# Altium footprint library MSAST219LB5106KTNA01.PcbLib: 3 footprints
Each footprint in its own frame and in the unit in brackets; x right, y up, seen from the top. Pads: shape width x height; smd on the part's side, far side on the other; paste and mask are expansions set on the pad; w line width, h text height; cw(c..) or ccw(c..) is an arc to the next point about the centre after c.
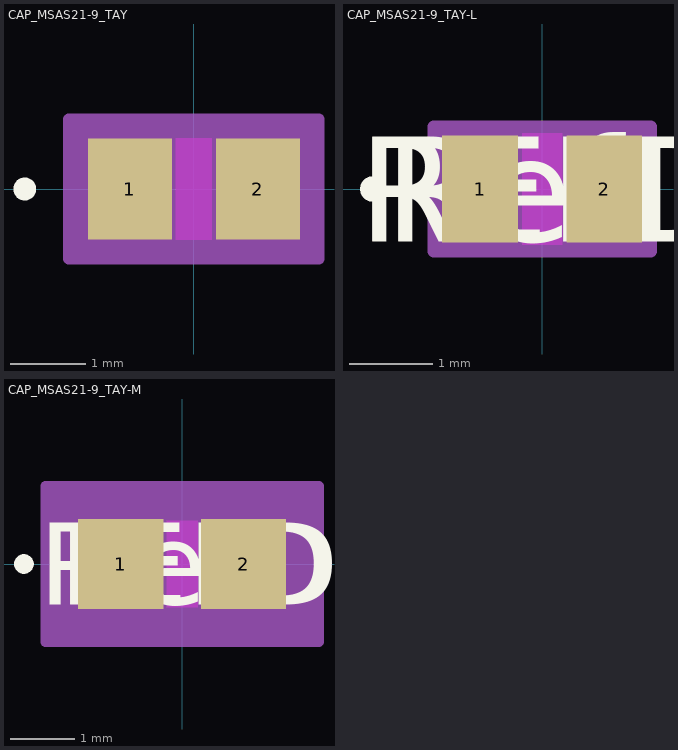
[diagram p0: the footprints below, top view; thin cyan lines are the x and y axes]

## CAP_MSAS21-9_TAY [mil]
pads (2):
  rect 44x53 smd paste+0 mask+0: 1(-33.5,0) 2(33.5,0)
Top Layer keep-out:
  region: -9.5,-24.5 -9.5,24.5 9.5,24.5 9.5,-24.5
Top Overlay:
  circle w6: c-88.5,0 r3
Keep-Out Layer:
  region: -9.5,-26.5 -9.5,26.5 9.5,26.5 9.5,-26.5
Mechanical 13:
  circle w0: c-28.5,0 r3
  lines w1: -41.5,-26.5 -41.5,26.5 ; -41.5,-26.5 41.5,-26.5 ; -41.5,-26.5 -11.5,-26.5 -11.5,26.5 -41.5,26.5 ; -41.5,-26.5 -41.5,26.5 ; -41.5,26.5 41.5,26.5 ; 41.5,-26.5 41.5,26.5 ; 41.5,-26.5 41.5,26.5 ; 41.5,-26.5 11.5,-26.5 11.5,26.5 41.5,26.5
Mechanical 15:
  region: 65.5,-36.5 -65.5,-36.5 -65.5,36.5 65.5,36.5
  lines w6: -65.5,-36.5 65.5,-36.5 65.5,36.5 -65.5,36.5 -65.5,-36.5
3D body "CAP_MSAS21-9_TAY.step": height 37.01, standoff 0, extent -41.5,-26.5 41.5,26.5

## CAP_MSAS21-9_TAY-L [mil]
pads (2):
  rect 36x51 smd paste+0 mask+0: 1(-29.5,0) 2(29.5,0)
Top Layer keep-out:
  region: -9.5,-24.5 -9.5,24.5 9.5,24.5 9.5,-24.5
Top Overlay:
  circle w6: c-80.5,0 r3
  text "RefDes" at -75,-25 h50
  text "REFDES" at -87.5,-25 h50
Keep-Out Layer:
  region: -9.5,-26.5 -9.5,26.5 9.5,26.5 9.5,-26.5
Mechanical 13:
  circle w0: c-24.5,0 r3
  lines w1: -41.5,-26.5 -41.5,26.5 ; -41.5,-26.5 -11.5,-26.5 -11.5,26.5 -41.5,26.5 ; -41.5,-26.5 41.5,-26.5 ; -41.5,-26.5 -41.5,26.5 ; -41.5,26.5 41.5,26.5 ; 41.5,-26.5 11.5,-26.5 11.5,26.5 41.5,26.5 ; 41.5,-26.5 41.5,26.5 ; 41.5,-26.5 41.5,26.5
  text "RefDes2" at -87.5,-25 h50
Mechanical 15:
  region: 51.5,-29.5 -51.5,-29.5 -51.5,29.5 51.5,29.5
  lines w6: -51.5,-29.5 -51.5,29.5 51.5,29.5 51.5,-29.5 -51.5,-29.5
3D body "CAP_MSAS21-9_TAY.step": height 37.01, standoff 0, extent -41.5,-26.5 41.5,26.5

## CAP_MSAS21-9_TAY-M [mil]
pads (2):
  rect 52x55 smd paste+0 mask+0: 1(-37.5,0) 2(37.5,0)
Top Layer keep-out:
  region: -9.5,-24.5 -9.5,24.5 9.5,24.5 9.5,-24.5
Top Overlay:
  circle w6: c-96.5,0 r3
  text "RefDes" at -75,-25 h50
  text "REFDES" at -87.5,-25 h50
Keep-Out Layer:
  region: -9.5,-26.5 -9.5,26.5 9.5,26.5 9.5,-26.5
Mechanical 13:
  circle w0: c-32.5,0 r3
  lines w1: -41.5,-26.5 -41.5,26.5 ; -41.5,-26.5 -11.5,-26.5 -11.5,26.5 -41.5,26.5 ; -41.5,-26.5 41.5,-26.5 ; -41.5,-26.5 -41.5,26.5 ; -41.5,26.5 41.5,26.5 ; 41.5,-26.5 11.5,-26.5 11.5,26.5 41.5,26.5 ; 41.5,-26.5 41.5,26.5 ; 41.5,-26.5 41.5,26.5
  text "RefDes2" at -87.5,-25 h50
Mechanical 15:
  region: 83.5,-47.5 -83.5,-47.5 -83.5,47.5 83.5,47.5
  lines w6: -83.5,-47.5 -83.5,47.5 83.5,47.5 83.5,-47.5 -83.5,-47.5
3D body "CAP_MSAS21-9_TAY.step": height 37.01, standoff 0, extent -41.5,-26.5 41.5,26.5